# Altium schematic symbol library ICs-LEDDrivers.SchLib: 6 symbols
Pins are listed as number, name and electrical type; pins without a type are passive.

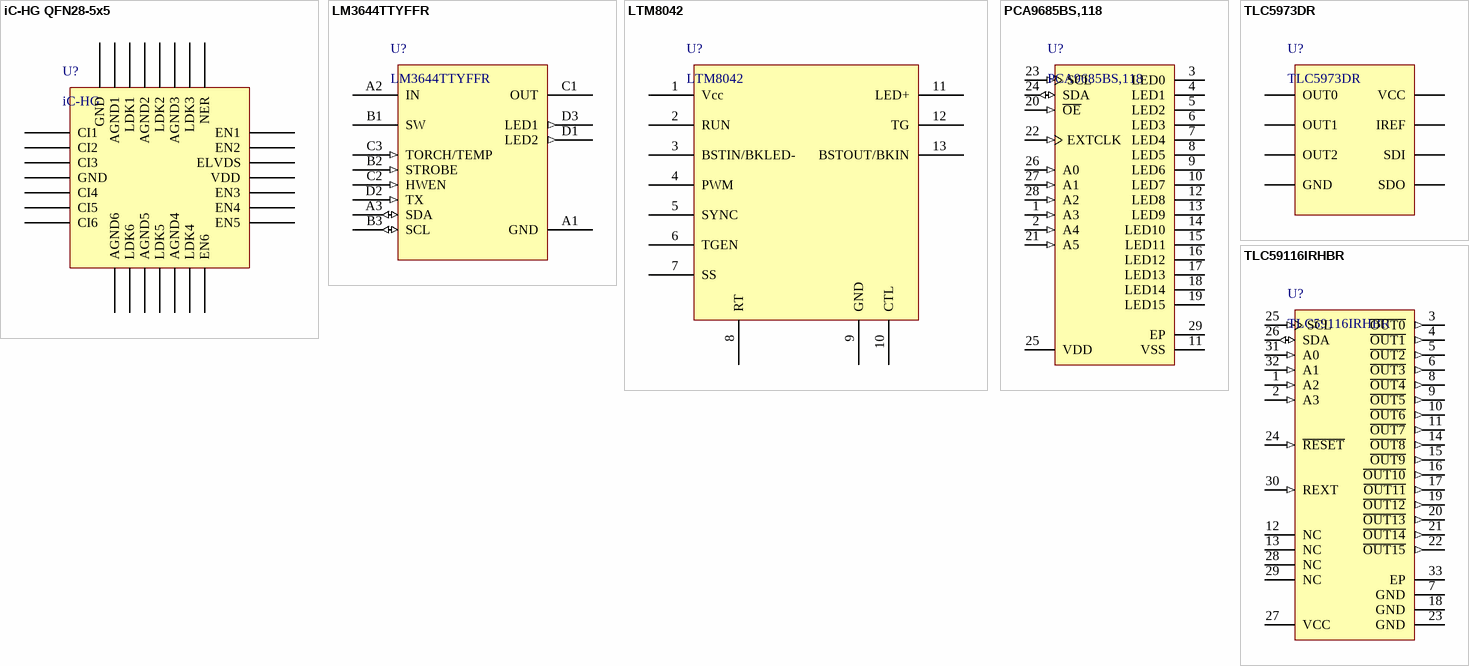
[diagram p0: symbols iC-HG QFN28-5x5 to TLC59116IRHBR]

## iC-HG QFN28-5x5
designator U?, comment iC-HG
PartNumber: iC-HG QFN28-5x5; Manufacturer: iC-Haus; Mounting Technology: Surface Mount; PackageReference: QFN-28
footprint QFN-28 (QFN, 28-Leads, Body 5.00x5.00mm, Pitch 0.50mm, Thermal Pad 3.15x3.15mm, IPC Medium Density)
pins: 1 CI1, 2 CI2, 3 CI3, 4 GND, 5 CI4, 6 CI5, 7 CI6, 8 AGND6, 9 LDK6, 10 AGND5, 11 LDK5, 12 AGND4, 13 LDK4, 14 EN6, 15 EN5, 16 EN4, 17 EN3, 18 VDD, 19 ELVDS, 20 EN2, 21 EN1, 22 NER, 23 LDK3, 24 AGND3, 25 LDK2, 26 AGND2, 27 LDK1, 28 AGND1, 29 GND

## LM3644TTYFFR
designator U?
LED Lighting Drivers 1.5 Amp LED driver; Manufacturer: Texas Instruments; PackageReference: BGA-12; Mounting Technology: Surface Mount; PartNumber: LM3644TTYFFR
footprint BGA-12 (BGA, 12-Leads, Body 1.28x1.66mmx0.63mm, Pitch 0.40mm)
pins: A1 GND (power), A2 IN (power), A3 SDA (io), B1 SW (power), B2 STROBE (in), B3 SCL (io), C1 OUT (power), C2 HWEN (in), C3 TORCH/TEMP (in), D1 LED2 (out), D2 TX (in), D3 LED1 (out)

## LTM8042
designator U?
Manufacturer: Linear Technology; PartNumber: LTM8042EV#PBF; Mounting Technology: Surface Mount; PackageReference: LGA
footprint LGA-77 (LGA, 77-Leads, Body 9.00x15.00mmx2.82mm, Pitch 1.27mm); pin to pad 1>A6+A7+B6+B7 2>F1 3>C5+C6+C7+D5+D6+D7 4>K1 5>G1 6>L3 7>J1 8>H1 9>A1+A2+A3+A4+A5+B1+B2+B3+B4+B5+C1+C2+C3+C4+D1+D2+D3+D4+E1+E2+E3+E4+E5+E6+E7+F2+F3+F4+F5+F6+F7+G2+G3+G4+H2+H3+H4+J2+J3+J4+K2+K3+K4+L1+L4 10>L2 11>K5+K6+K7+L5+L6+L7 12>J7 13>G5+G6+G7+H5+H6+H7+J5+J6
pins: 1 Vcc, 2 RUN, 3 BSTIN/BKLED-, 4 PWM, 5 SYNC, 6 TGEN, 7 SS, 8 RT, 9 GND, 10 CTL, 11 LED+, 12 TG, 13 BSTOUT/BKIN

## PCA9685BS,118
designator U?
IC LED DRVR LIN DIM 25MA 28HVQFN; Manufacturer: NXP; PartNumber: PCA9685BS,118; PackageReference: QFN-28; Mounting Technology: Surface Mount
footprint VQFN-28 (QFN, 28-Leads, Body 6.1x6.1mm, Pitch 0.65mm, Thermal Pad 4x4mm)
pins: 1 A3 (in) "address input 3", 2 A4 (in) "address input 4", 3 LED0 (hiz) "LED driver 0", 4 LED1 (hiz) "LED driver 1", 5 LED2 (hiz) "LED driver 2", 6 LED3 (hiz) "LED driver 3", 7 LED4 (hiz) "LED driver 4", 8 LED5 (hiz) "LED driver 5", 9 LED6 (hiz) "LED driver 6", 10 LED7 (hiz) "LED driver 7", 11 VSS (power) "supply ground", 12 LED8 (hiz) "LED driver 8", 13 LED9 (hiz) "LED driver 9", 14 LED10 (hiz) "LED driver 10", 15 LED11 (hiz) "LED driver 11", 16 LED12 (hiz) "LED driver 12", 17 LED13 (hiz) "LED driver 13", 18 LED14 (hiz) "LED driver 14", 19 LED15 (hiz) "LED driver 15", 20 ~{OE} (in) "active LOW output enable", 21 A5 (in) "address input 5", 22 EXTCLK (in) "external clock input", 23 SCL (in) "serial clock line", 24 SDA (io) "serial data line", 25 VDD (power) "supply voltage", 26 A0 (in) "address input 0", 27 A1 (in) "address input 1", 28 A2 (in) "address input 2", 29 EP (power)

## TLC5973DR
designator U?
LED Lighting Drivers 3Ch 12B PWM Constant Crnt LED Dvr; Manufacturer: Texas Instruments; PartNumber: TLC5973DR; Mounting Technology: Surface Mount; PackageReference: SOIC-8
footprint SOIC-8 (SOIC, 8-Leads, Body 4.90x3.90mm, Pitch 1.27mm, IPC Medium Density)
pins: 1 OUT0, 2 OUT1, 3 OUT2, 4 GND (power), 5 SDO, 6 SDI, 7 IREF, 8 VCC (power)

## TLC59116IRHBR
designator U?
IC LED DRVR LIN DIM 120MA 32VQFN; Manufacturer: Texas Instruments; PartNumber: TLC59116IRHBR; PackageReference: QFN-32; Mounting Technology: Surface Mount
footprint VQFN-32 (QFN, 32-Leads, Body 5x5mm, Pitch 0.5mm, Thermal Pad 3.45x3.45mm)
pins: 1 A2 (in) "Address input 2", 2 A3 (in) "Address input 3", 3 ~{OUT0} (out) "Constant current output 0", 4 ~{OUT1} (out) "Constant current output 1", 5 ~{OUT2} (out) "Constant current output 2", 6 ~{OUT3} (out) "Constant current output 3", 7 GND (power) "Ground", 8 ~{OUT4} (out) "Constant current output 4", 9 ~{OUT5} (out) "Constant current output 5", 10 ~{OUT6} (out) "Constant current output 6", 11 ~{OUT7} (out) "Constant current output 7", 12 NC "No internal connection", 13 NC "No internal connection", 14 ~{OUT8} (out) "Constant current output 8", 15 ~{OUT9} (out) "Constant current output 9", 16 ~{OUT10} (out) "Constant current output 10", 17 ~{OUT11} (out) "Constant current output 11", 18 GND (power) "Ground", 19 ~{OUT12} (out) "Constant current output 12", 20 ~{OUT13} (out) "Constant current output 13", 21 ~{OUT14} (out) "Constant current output 14", 22 ~{OUT15} (out) "Constant current output 15", 23 GND (power) "Ground", 24 ~{RESET} (in) "Active-low reset input", 25 SCL (in) "Serial clock input", 26 SDA (io) "Serial data input/output", 27 VCC (power) "Power supply", 28 NC "No internal connection", 29 NC "No internal connection", 30 REXT (in) "Input terminal used to connect an external resistor for setting up all output currents", 31 A0 (in) "Address input 0", 32 A1 (in) "Address input 1", 33 EP (power) "If used, the exposed thermal pad must be connected as a secondary ground."